# Altium footprint library Serhad_library.PcbLib: 4 footprints
Each footprint in its own frame and in the unit in brackets; x right, y up, seen from the top. Pads: shape width x height; smd on the part's side, far side on the other; paste and mask are expansions set on the pad; w line width, h text height; cw(c..) or ccw(c..) is an arc to the next point about the centre after c.
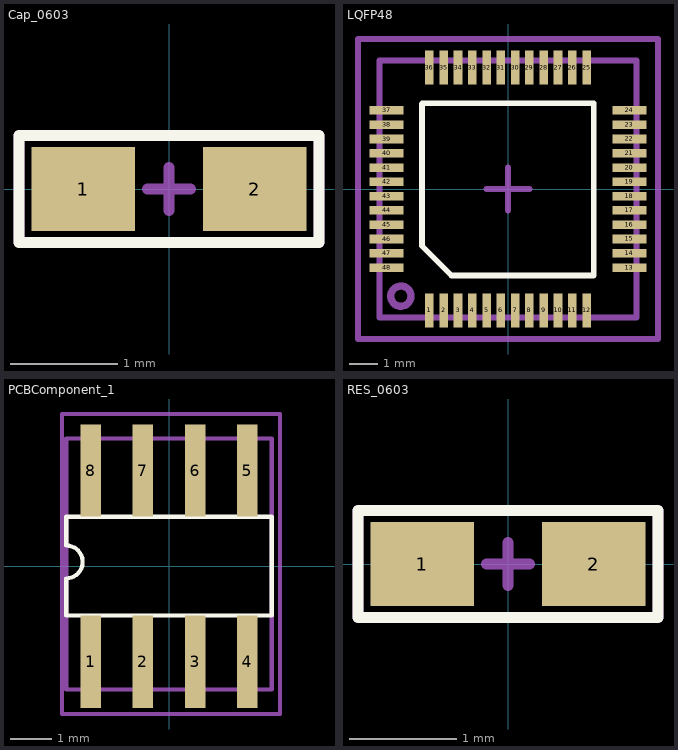
[diagram p0: the footprints below, top view; thin cyan lines are the x and y axes]

## Cap_0603 [mil]
pads (2):
  rect 38x31 smd mask+1.97: 1(-31.5,0) 2(31.5,0)
Top Overlay:
  lines w3.94: -55.12,-19.68 -55.12,19.68 55.12,19.68 55.12,-19.68 -55.12,-19.68
Top Component Center:
  lines w3.94: 0,7.87 0,-7.87 0,0 -7.87,0 7.87,0 ; -55.12,-19.68 -55.12,19.68 55.12,19.68 55.12,-19.68 -55.12,-19.68
  text ".Designater" at -37.4,-3.28 h7.87
3D body "CAPC0603.STEP": height 31.5, standoff 0, extent -41.35,-20.82 41.35,19.68

## LQFP48 [mm] "7x7mm"
pads (48):
  rect 0.3x1.2 smd mask+0.05: 1(-2.75,-4.25) 2(-2.25,-4.25) 3(-1.75,-4.25) 4(-1.25,-4.25) 5(-0.75,-4.25) 6(-0.25,-4.25) 7(0.25,-4.25) 8(0.75,-4.25) 9(1.25,-4.25) 10(1.75,-4.25) 11(2.25,-4.25) 12(2.75,-4.25) 25(2.75,4.25) 26(2.25,4.25) 27(1.75,4.25) 28(1.25,4.25) 29(0.75,4.25) 30(0.25,4.25) 31(-0.25,4.25) 32(-0.75,4.25) 33(-1.25,4.25) 34(-1.75,4.25) 35(-2.25,4.25) 36(-2.75,4.25)
  rect 1.2x0.3 smd mask+0.05: 13(4.25,-2.75) 14(4.25,-2.25) 15(4.25,-1.75) 16(4.25,-1.25) 17(4.25,-0.75) 18(4.25,-0.25) 19(4.25,0.25) 20(4.25,0.75) 21(4.25,1.25) 22(4.25,1.75) 23(4.25,2.25) 24(4.25,2.75) 37(-4.25,2.75) 38(-4.25,2.25) 39(-4.25,1.75) 40(-4.25,1.25) 41(-4.25,0.75) 42(-4.25,0.25) 43(-4.25,-0.25) 44(-4.25,-0.75) 45(-4.25,-1.25) 46(-4.25,-1.75) 47(-4.25,-2.25) 48(-4.25,-2.75)
Top Overlay:
  lines w0.2: -3.01,2.975 -3.01,-1.99 -1.975,-3.025 2.99,-3.025 ; -3,3 3,3 3,-3
Top 3D Body:
  circle w0.254: c-3.75,-3.75 r0.354
  lines w0.2: -4.5,-4.5 4.5,-4.5 4.5,4.5 -4.5,4.5 -4.5,-4.5
Top Component Center:
  lines w0.2: -0.75,0 0.75,0 0,0 ; 0,-0.75 0,0 ; 0,0.75 0,0 ; -5.25,-5.25 5.25,-5.25 5.25,-5 5.25,5.25 -5.25,5.25 -5.25,-5.25
Top Designator:
  text ".Designator" at -1.868,-0.758 h1.52
3D body "LQFP48_Grid_0_5.STEP": height 1.6, standoff 0, extent -4.5,-4.5 4.5,4.5

## PCBComponent_1 [mm]
pads (8):
  rect 0.5x2.25 smd mask+0.05: 1(-1.905,-2.325) 2(-0.635,-2.325) 3(0.635,-2.325) 4(1.905,-2.325) 5(1.905,2.325) 6(0.635,2.325) 7(-0.635,2.325) 8(-1.905,2.325)
Top Overlay:
  lines w0.1: -2.1,1.2 -2.2,1.2 ; -2.2,1.2 -2.5,1.2 -2.5,0.7 -2.5,0.5 cw(c-2.5,0.1) -2.5,-0.3 -2.5,-0.5 -2.5,-1.2 -2.2,-1.2 2.5,-1.2 2.5,-0.6 2.5,0.6 2.5,1.2 -2.2,1.2
Top 3D Body:
  lines w0.1: -2.5,-3 2.5,-3 2.5,3.1 -2.5,3.1 -2.5,-3
Top Component Center:
  lines w0.1: -2.6,-3.6 -2.6,3.7 2.7,3.7 2.7,-3.6 -2.6,-3.6
  text ".Designater" at -1.7,-0.567 h1
3D body "Package, SOIC-8, 3.9mm.STEP": height 1.5, standoff 0, extent -2.45,-3 2.45,3

## RES_0603 [mil]
pads (2):
  rect 38x31 smd mask+1.97: 1(-31.5,0) 2(31.5,0)
Top Overlay:
  lines w3.94: -55.12,-19.68 -55.12,19.68 55.12,19.68 55.12,-19.68 -55.12,-19.68
Top Component Center:
  lines w3.94: 0,7.87 0,-7.87 0,0 -7.87,0 7.87,0 ; -55.12,-19.68 -55.12,19.68 55.12,19.68 55.12,-19.68 -55.12,-19.68
  text ".Designater" at -37.4,-3.28 h7.87
3D body "0603S1.STEP": height 16.89, standoff -0.83, extent -38.92,-18.88 38.92,19.68